# Altium footprint library Miscellaneous Devices LC.PcbLib: 559 footprints (part 24 of 35)
Each footprint in its own frame and in the unit in brackets; x right, y up, seen from the top. Pads: shape width x height; smd on the part's side, far side on the other; paste and mask are expansions set on the pad; w line width, h text height; cw(c..) or ccw(c..) is an arc to the next point about the centre after c.
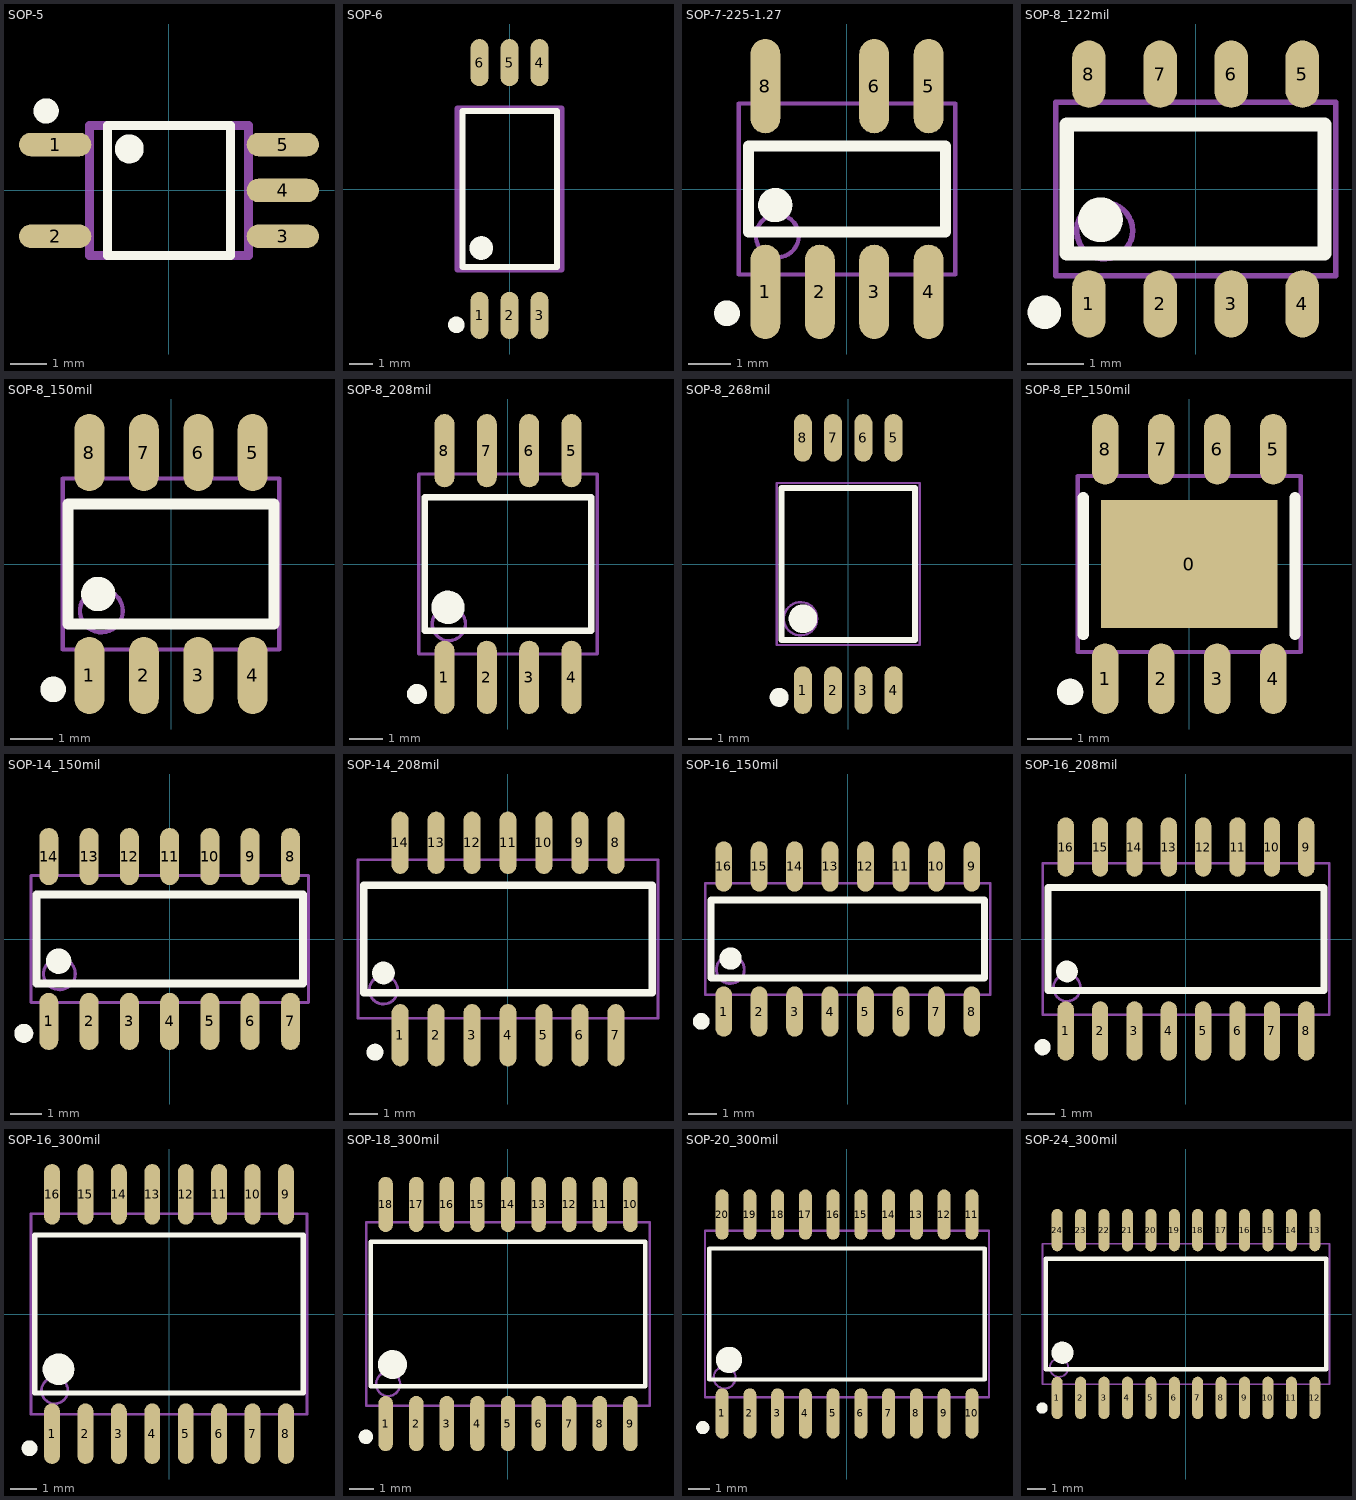
[diagram p23: the footprints below, top view; thin cyan lines are the x and y axes]

## SOP-5 [mm]
pads (5):
  oval 2x0.65 smd: 1(-3.15,1.27) 2(-3.15,-1.27) 3(3.15,-1.27) 4(3.15,0) 5(3.15,1.27)
Top Overlay:
  circle w0.4: c-3.4,2.2 r0.15
  circle w0.4: c-1.1,1.15 r0.2
  lines w0.254: -1.7,-1.8 1.7,-1.8 1.7,1.8 -1.7,1.8 -1.7,-1.8
Mechanical 13:
  lines w0.254: -2.2,-1.8 2.2,-1.8 2.2,1.8 -2.2,1.8 -2.2,-1.8

## SOP-6 [mm]
pads (6):
  oval 0.76x2 smd: 1(-1.27,-5.35) 2(0,-5.35) 3(1.27,-5.35) 4(1.27,5.35) 5(0,5.35) 6(-1.27,5.35)
Top Overlay:
  circle w0.5: c-1.2,-2.5 r0.25
  circle w0.4: c-2.25,-5.75 r0.15
  lines w0.254: -2,-3.3 -2,3.3 2,3.3 2,-3.3 -2,-3.3
Mechanical 13:
  lines w0.254: -2.2,-3.4 -2.2,3.4 2.2,3.4 2.2,-3.4 -2.2,-3.4

## SOP-7-225-1.27 [mm]
pads (7):
  oval 0.7x2.2 smd: 1(-1.905,-2.4) 2(-0.635,-2.4) 3(0.635,-2.4) 4(1.905,-2.4) 5(1.905,2.4) 6(0.635,2.4) 8(-1.905,2.4)
Top Overlay:
  circle w0.3: c-2.8,-2.9 r0.15
  circle w0.4: c-1.675,-0.375 r0.2
  lines w0.254: -2.3,-1 2.3,-1 2.3,1 -2.3,1 -2.3,-1
Mechanical 13:
  circle w0.1: c-1.625,-1.095 r0.5
  lines w0.1: -2.525,-1.995 2.525,-1.995 2.525,1.995 -2.525,1.995 -2.525,-1.995

## SOP-8_122mil [mm]
pads (8):
  oval 0.6x1.2 smd: 1(-1.905,-2.05) 2(-0.635,-2.05) 3(0.635,-2.05) 4(1.905,-2.05) 5(1.905,2.05) 6(0.635,2.05) 7(-0.635,2.05) 8(-1.905,2.05)
Top Overlay:
  circle w0.3: c-2.7,-2.2 r0.15
  circle w0.4: c-1.7,-0.55 r0.2
  lines w0.254: -2.3,-1.15 -2.3,1.15 2.3,1.15 2.3,-1.15 -2.3,-1.15
Mechanical 13:
  circle w0.1: c-1.625,-0.745 r0.5
  lines w0.1: -2.5,-1.55 -2.5,1.55 2.5,1.55 2.5,-1.55 -2.5,-1.55

## SOP-8_150mil [mm]
pads (8):
  oval 0.7x1.8 smd: 1(-1.905,-2.6) 2(-0.635,-2.6) 3(0.635,-2.6) 4(1.905,-2.6) 5(1.905,2.6) 6(0.635,2.6) 7(-0.635,2.6) 8(-1.905,2.6)
Top Overlay:
  circle w0.4: c-1.7,-0.7 r0.2
  circle w0.3: c-2.75,-2.925 r0.15
  lines w0.254: -2.4,-1.4 -2.4,1.4 2.4,1.4 2.4,-1.4 -2.4,-1.4
Mechanical 13:
  circle w0.1: c-1.625,-1.095 r0.5
  lines w0.1: -2.525,-1.995 -2.525,1.995 2.525,1.995 2.525,-1.995 -2.525,-1.995
3D body "SOP8.STEP": height 1.7, standoff 0.01, extent -2.565,-3.093 2.565,3.093

## SOP-8_208mil [mm]
pads (8):
  oval 0.6x2.2 smd: 1(-1.905,-3.4) 2(-0.635,-3.4) 3(0.635,-3.4) 4(1.905,-3.4) 5(1.905,3.4) 6(0.635,3.4) 7(-0.635,3.4) 8(-1.905,3.4)
Top Overlay:
  circle w0.3: c-2.73,-3.9 r0.15
  circle w0.5: c-1.8,-1.3 r0.25
  lines w0.2: -2.5,-2 -2.5,2 2.5,2 2.5,-2 -2.5,-2
Mechanical 13:
  circle w0.1: c-1.775,-1.8 r0.5
  lines w0.1: -2.675,-2.7 -2.675,2.7 2.675,2.7 2.675,-2.7 -2.675,-2.7

## SOP-8_268mil [mm]
pads (8):
  oval 0.76x2 smd: 1(-1.905,-5.3) 2(-0.635,-5.3) 3(0.635,-5.3) 4(1.905,-5.3) 5(1.905,5.3) 6(0.635,5.3) 7(-0.635,5.3) 8(-1.905,5.3)
Top Overlay:
  circle w0.4: c-2.9,-5.6 r0.2
  circle w0.6: c-1.9,-2.3 r0.3
  lines w0.254: -2.8,-3.2 -2.8,3.2 2.8,3.2 2.8,-3.2 -2.8,-3.2
Mechanical 13:
  circle w0.1: c-2,-2.3 r0.7
  lines w0.1: -3,-3.4 -3,3.4 3,3.4 3,-3.4 -3,-3.4

## SOP-8_EP_150mil [mm]
pads (9):
  rect 4x2.9 smd: 0(0,0)
  oval 0.6x1.6 smd: 1(-1.905,-2.6) 2(-0.635,-2.6) 3(0.635,-2.6) 4(1.905,-2.6) 5(1.905,2.6) 6(0.635,2.6) 7(-0.635,2.6) 8(-1.905,2.6)
Top Overlay:
  circle w0.3: c-2.7,-2.9 r0.15
  lines w0.254: -2.4,-1.6 -2.4,1.5 ; 2.4,-1.6 2.4,1.5
Mechanical 13:
  lines w0.1: -2.525,-1.995 2.525,-1.995 2.525,1.995 -2.525,1.995 -2.525,-1.995

## SOP-14_150mil [mm]
pads (14):
  oval 0.6x1.8 smd: 1(-3.81,-2.6) 2(-2.54,-2.6) 3(-1.27,-2.6) 4(0,-2.6) 5(1.27,-2.6) 6(2.54,-2.6) 7(3.81,-2.6) 8(3.81,2.6) 9(2.54,2.6) 10(1.27,2.6) 11(0,2.6) 12(-1.27,2.6) 13(-2.54,2.6) 14(-3.81,2.6)
Top Overlay:
  circle w0.4: c-3.5,-0.7 r0.2
  circle w0.3: c-4.6,-2.975 r0.15
  lines w0.254: -4.2,-1.4 -4.2,1.4 4.2,1.4 4.2,-1.4 -4.2,-1.4
Mechanical 13:
  circle w0.1: c-3.475,-1.1 r0.5
  lines w0.1: -4.375,-2 -4.375,2 4.375,2 4.375,-2 -4.375,-2

## SOP-14_208mil [mm]
pads (14):
  oval 0.6x2.2 smd: 1(-3.81,-3.4) 2(-2.54,-3.4) 3(-1.27,-3.4) 4(0,-3.4) 5(1.27,-3.4) 6(2.54,-3.4) 7(3.81,-3.4) 8(3.81,3.4) 9(2.54,3.4) 10(1.27,3.4) 11(0,3.4) 12(-1.27,3.4) 13(-2.54,3.4) 14(-3.81,3.4)
Top Overlay:
  circle w0.4: c-4.4,-1.2 r0.2
  circle w0.3: c-4.7,-4 r0.15
  lines w0.254: -5.1,-1.9 5.1,-1.9 5.1,1.9 -5.1,1.9 -5.1,-1.9
Mechanical 13:
  circle w0.1: c-4.4,-1.8 r0.5
  lines w0.1: -5.3,-2.8 5.3,-2.8 5.3,2.8 -5.3,2.8 -5.3,-2.8

## SOP-16_150mil [mm]
pads (16):
  oval 0.6x1.8 smd: 1(-4.445,-2.6) 2(-3.175,-2.6) 3(-1.905,-2.6) 4(-0.635,-2.6) 5(0.635,-2.6) 6(1.905,-2.6) 7(3.175,-2.6) 8(4.445,-2.6) 9(4.445,2.6) 10(3.175,2.6) 11(1.905,2.6) 12(0.635,2.6) 13(-0.635,2.6) 14(-1.905,2.6) 15(-3.175,2.6) 16(-4.445,2.6)
Top Overlay:
  circle w0.4: c-4.2,-0.7 r0.2
  circle w0.3: c-5.25,-2.95 r0.15
  lines w0.254: -4.9,-1.4 4.9,-1.4 4.9,1.4 -4.9,1.4 -4.9,-1.4
Mechanical 13:
  circle w0.1: c-4.205,-1.095 r0.5
  lines w0.1: -5.105,-1.995 5.105,-1.995 5.105,1.995 -5.105,1.995 -5.105,-1.995
3D body "SOIC16P127_990X600X175L60X40.STEP": height 1.75, standoff 0, extent -4.95,-2.97 4.95,3.03

## SOP-16_208mil [mm]
pads (16):
  oval 0.6x2.2 smd: 1(-4.445,-3.4) 2(-3.175,-3.4) 3(-1.905,-3.4) 4(-0.635,-3.4) 5(0.635,-3.4) 6(1.905,-3.4) 7(3.175,-3.4) 8(4.445,-3.4) 9(4.445,3.4) 10(3.175,3.4) 11(1.905,3.4) 12(0.635,3.4) 13(-0.635,3.4) 14(-1.905,3.4) 15(-3.175,3.4) 16(-4.445,3.4)
Top Overlay:
  circle w0.4: c-4.4,-1.2 r0.2
  circle w0.3: c-5.3,-4 r0.15
  lines w0.254: -5.1,-1.9 5.1,-1.9 5.1,1.9 -5.1,1.9 -5.1,-1.9
Mechanical 13:
  circle w0.1: c-4.4,-1.8 r0.5
  lines w0.1: -5.3,-2.8 5.3,-2.8 5.3,2.8 -5.3,2.8 -5.3,-2.8

## SOP-16_300mil [mm]
pads (16):
  oval 0.6x2.3 smd: 1(-4.445,-4.55) 2(-3.175,-4.55) 3(-1.905,-4.55) 4(-0.635,-4.55) 5(0.635,-4.55) 6(1.905,-4.55) 7(3.175,-4.55) 8(4.445,-4.55) 9(4.445,4.55) 10(3.175,4.55) 11(1.905,4.55) 12(0.635,4.55) 13(-0.635,4.55) 14(-1.905,4.55) 15(-3.175,4.55) 16(-4.445,4.55)
Top Overlay:
  circle w0.3: c-5.3,-5.1 r0.15
  circle w0.6: c-4.2,-2.1 r0.3
  lines w0.2: -5.1,-3 -5.1,3 5.1,3 5.1,-3 -5.1,-3
Mechanical 13:
  circle w0.1: c-4.345,-2.91 r0.5
  lines w0.1: -5.245,-3.81 -5.245,3.81 5.245,3.81 5.245,-3.81 -5.245,-3.81

## SOP-18_300mil [mm]
pads (18):
  oval 0.6x2.3 smd: 1(-5.08,-4.55) 2(-3.81,-4.55) 3(-2.54,-4.55) 4(-1.27,-4.55) 5(0,-4.55) 6(1.27,-4.55) 7(2.54,-4.55) 8(3.81,-4.55) 9(5.08,-4.55) 10(5.08,4.55) 11(3.81,4.55) 12(2.54,4.55) 13(1.27,4.55) 14(0,4.55) 15(-1.27,4.55) 16(-2.54,4.55) 17(-3.81,4.55) 18(-5.08,4.55)
Top Overlay:
  circle w0.3: c-5.9,-5.1 r0.15
  circle w0.6: c-4.8,-2.1 r0.3
  lines w0.2: -5.7,-3 -5.7,3 5.7,3 5.7,-3 -5.7,-3
Mechanical 13:
  circle w0.1: c-4.98,-2.91 r0.5
  lines w0.1: -5.88,-3.81 -5.88,3.81 5.88,3.81 5.88,-3.81 -5.88,-3.81

## SOP-20_300mil [mm]
pads (20):
  oval 0.6x2.3 smd: 1(-5.715,-4.55) 2(-4.445,-4.55) 3(-3.175,-4.55) 4(-1.905,-4.55) 5(-0.635,-4.55) 6(0.635,-4.55) 7(1.905,-4.55) 8(3.175,-4.55) 9(4.445,-4.55) 10(5.715,-4.55) 11(5.715,4.55) 12(4.445,4.55) 13(3.175,4.55) 14(1.905,4.55) 15(0.635,4.55) 16(-0.635,4.55) 17(-1.905,4.55) 18(-3.175,4.55) 19(-4.445,4.55) 20(-5.715,4.55)
Top Overlay:
  circle w0.3: c-6.6,-5.2 r0.15
  circle w0.6: c-5.4,-2.1 r0.3
  lines w0.2: -6.3,-3 6.3,-3 6.3,3 -6.3,3 -6.3,-3
Mechanical 13:
  circle w0.1: c-5.6,-2.91 r0.5
  lines w0.1: -6.5,-3.81 6.5,-3.81 6.5,3.81 -6.5,3.81 -6.5,-3.81

## SOP-24_300mil [mm]
pads (24):
  oval 0.6x2.3 smd: 1(-6.985,-4.55) 2(-5.715,-4.55) 3(-4.445,-4.55) 4(-3.175,-4.55) 5(-1.905,-4.55) 6(-0.635,-4.55) 7(0.635,-4.55) 8(1.905,-4.55) 9(3.175,-4.55) 10(4.445,-4.55) 11(5.715,-4.55) 12(6.985,-4.55) 13(6.985,4.55) 14(5.715,4.55) 15(4.445,4.55) 16(3.175,4.55) 17(1.905,4.55) 18(0.635,4.55) 19(-0.635,4.55) 20(-1.905,4.55) 21(-3.175,4.55) 22(-4.445,4.55) 23(-5.715,4.55) 24(-6.985,4.55)
Top Overlay:
  circle w0.6: c-6.7,-2.1 r0.3
  circle w0.3: c-7.8,-5.1 r0.15
  lines w0.254: -7.6,-3 7.6,-3 7.6,3 -7.6,3 -7.6,-3
Mechanical 13:
  circle w0.1: c-6.885,-2.91 r0.5
  lines w0.1: -7.785,-3.81 7.785,-3.81 7.785,3.81 -7.785,3.81 -7.785,-3.81